# EAGLE library part BMI055 (library LARS_409_SENSORS)
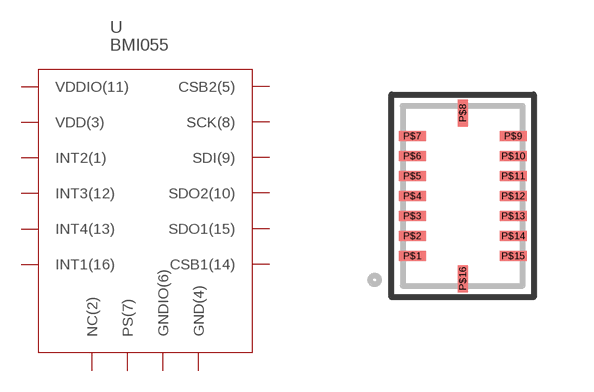
[diagram p5: symbol with the pads of LGA16PIN; footprint LGA16PIN]

Designator prefix U

## BMI055  [LGA16PIN]
P$1  INT2(1)
P$2  NC(2)
P$3  VDD(3)
P$4  GND(4)
P$5  CSB2(5)
P$6  GNDIO(6)
P$7  PS(7)
P$8  SCK(8)
P$9  SDI(9)
P$10  SDO2(10)
P$11  VDDIO(11)
P$12  INT3(12)
P$13  INT4(13)
P$14  CSB1(14)
P$15  SDO1(15)
P$16  INT1(16)

## Footprint LGA16PIN (pad centres in mm)
smd 0.675 x 0.25: P$1 -1.262,-1.5; P$2 -1.262,-1; P$3 -1.262,-0.5; P$4 -1.262,0; P$5 -1.262,0.5; P$6 -1.262,1; P$7 -1.262,1.5; P$9 1.262,1.5; P$10 1.262,1; P$11 1.262,0.5; P$12 1.262,0; P$13 1.262,-0.5; P$14 1.262,-1; P$15 1.262,-1.5
smd 0.25 x 0.675: P$8 0,2.072; P$16 0,-2.072